# EAGLE library part LIQUIDCRYSTAL (library I2C液晶)
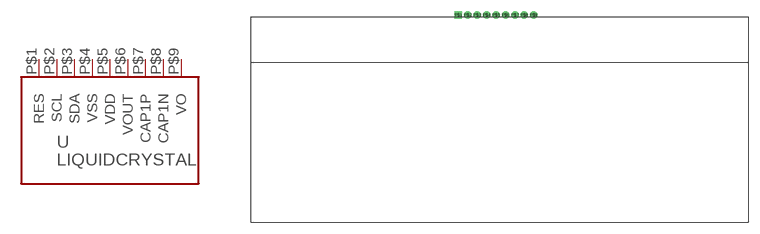
[diagram p0: symbol with the pads of LIQUIDCRYSTAL; footprint LIQUIDCRYSTAL]

Designator prefix -

## LIQUIDCRYSTAL  [LIQUIDCRYSTAL]
P$1  RES
P$2  SCL
P$3  SDA
P$4  VSS
P$5  VDD
P$6  VOUT
P$7  CAP1P
P$8  CAP1N
P$9  VO

## Footprint LIQUIDCRYSTAL (pad centres in mm)
drill 0.5 square: P$1 27.94,27.94
drill 0.5: P$2 29.21,27.94; P$3 30.48,27.94; P$4 31.75,27.94; P$5 33.02,27.94; P$6 34.29,27.94; P$7 35.56,27.94; P$8 36.83,27.94; P$9 38.1,27.94